# Altium integrated library TI Power Management Step-Up Regulator.IntLib: 226 symbols (part 4 of 11)
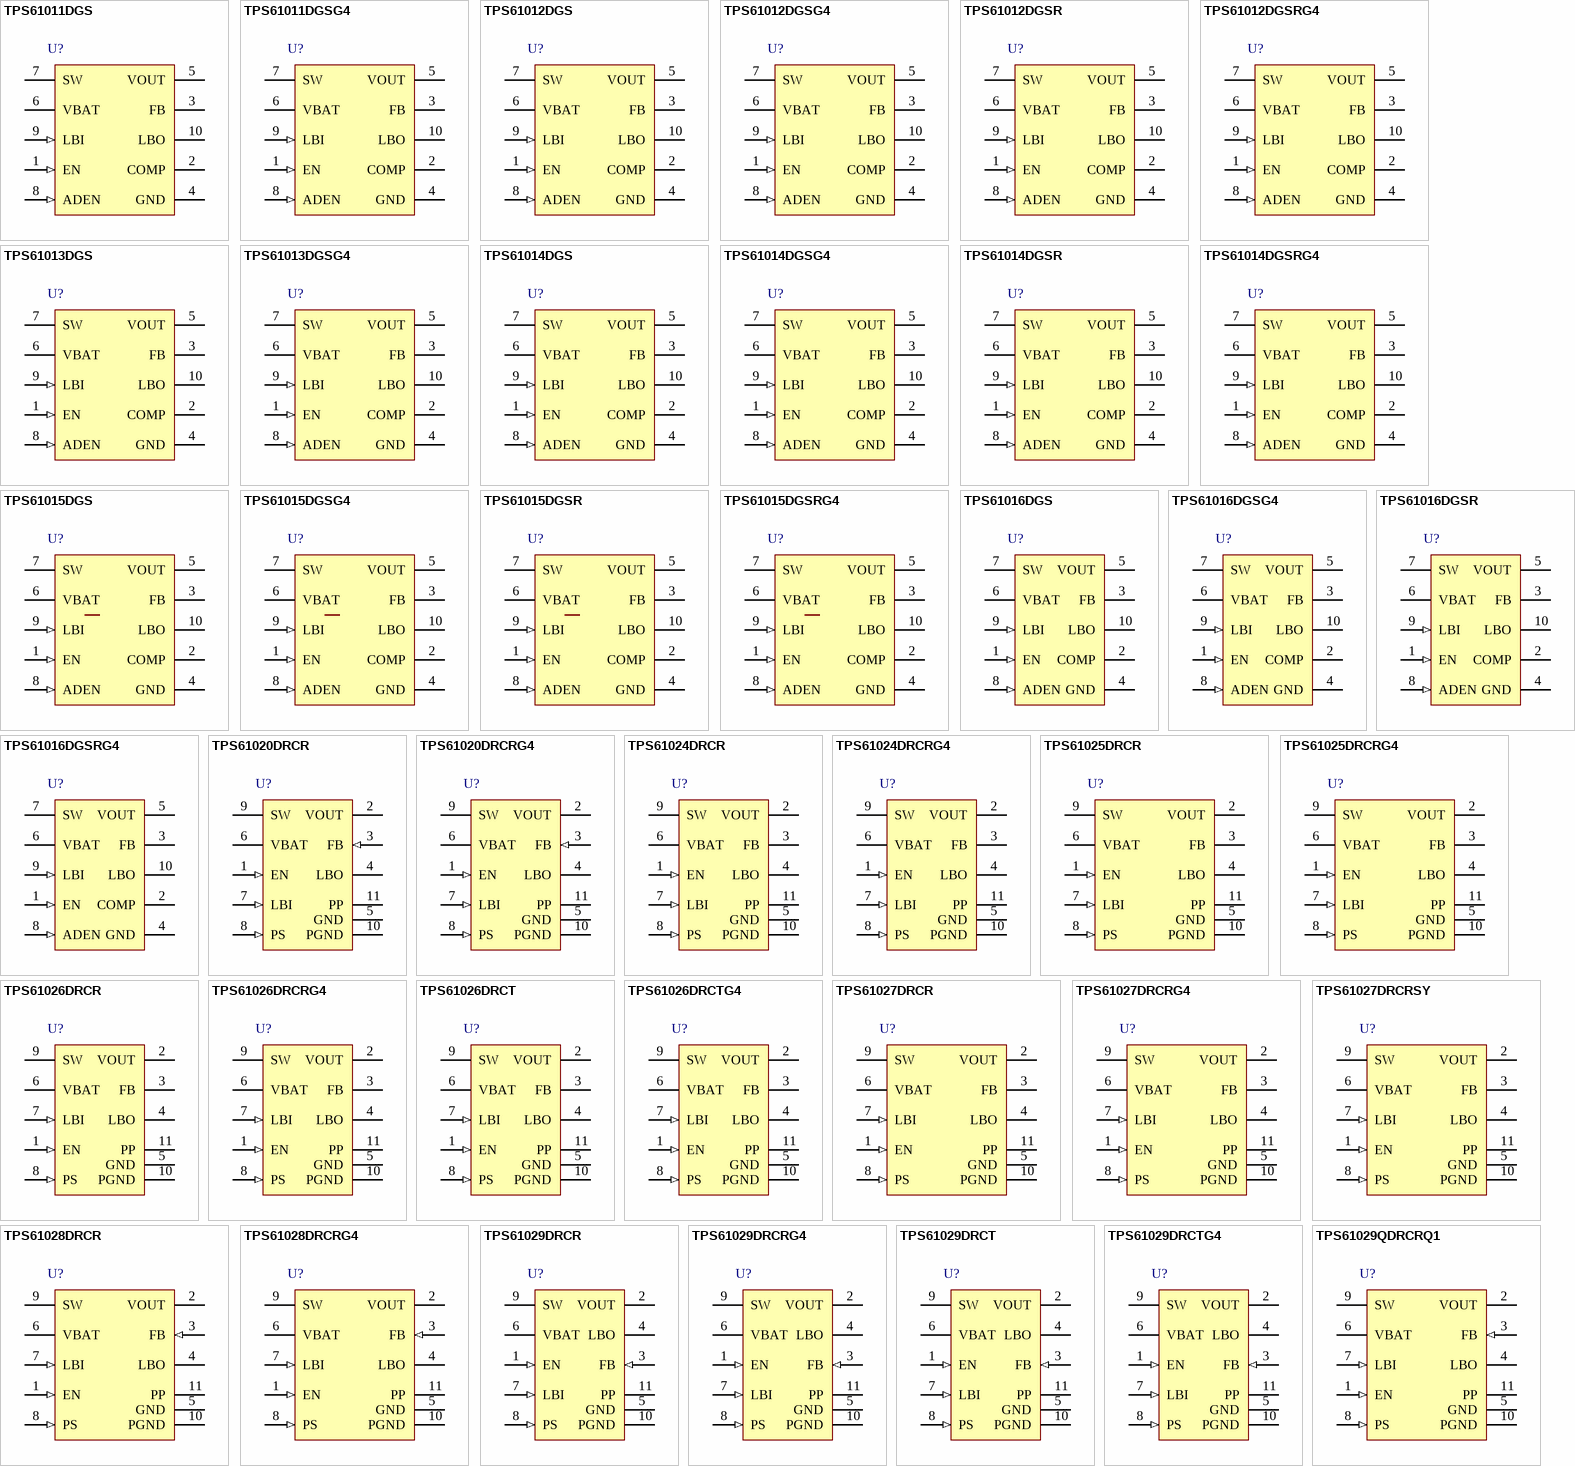
[diagram p9: symbols TPS61011DGS to TPS61029QDRCRQ1]

## TPS61024DRCRG4
designator U?
Boost Voltage Converter with 0.9 to 6.5 V Input, -40 to 85 degC, 10-Pin SON (DRC), Green (RoHS & no Sb/Br); Manufacturer: Texas Instruments; PartNumber: TPS61024DRCRG4; Preset Vout(V): 3; Regulated Outputs(#): 1; SubFamily: Step-Up Regulator; Switching Frequency(Max)(kHz): 720; Synchronous Rectification: TRUE; Vin(Max)(V): 6.5; Vin(Min)(V): 0.9; DatasheetVersion: SLVS451F; PackageVersion: revL, Sep-2011; PackageReference: DRC10-2400X1650TP; PackageDescription: 10-Pin Plastic Small Outline No-Lead, 3 x 3 x 1 mm Body, 0.5 mm Pitch, Exposed Pad; Supplier 1: Digi-Key; Supplier Part Number 1: TPS61024DRCRG4-ND; Supplier 2: Newark; Supplier Part Number 2: 24K6021; Supplier 3: Mouser; Supplier Part Number 3: 595-TPS61024DRCRG4; Eco-Plan: Green (RoHS & no Sb/Br); Topology: Boost; Mounting Technology: Surface Mount; ComponentLink1Description: Datasheet; ComponentLink1URL: http://www.ti.com/general/docs/lit/getliterature.tsp?genericPartNumber=TPS61024&fileType=pdf; ComponentLink2Description: Package Specification; ComponentLink2URL: http://www.ti.com/litv/pdf/mpds117k
footprint DRC10-2400X1650TP (SON, 10-Leads, Body 3x3mm, Pitch 0.5mm, Thermal Pad 2.4x1.65mm, TI Recommended)
pins: 1 EN (in) "Enable input. (1/VBAT enabled, 0/GND disabled)", 2 VOUT (power) "Boost converter output", 3 FB "Voltage feedback of adjustable versions", 4 LBO (hiz) "Low battery comparator output (open drain)", 5 GND (power) "Control / logic ground", 6 VBAT (power) "Supply voltage", 7 LBI (in) "Low battery comparator input (comparator enabled with EN), may not be left floating, should be connected to GND or VBAT if comparator is not used", 8 PS (in) "Enable/disable power save mode (1/VBAT disabled, 0/GND enabled)", 9 SW (power) "Boost and rectifying switch input", 10 PGND (power) "Power ground", 11 PP (power) "Must be soldered to achieve appropriate power dissipation. Should be connected to PGND."

## TPS61025DRCR
designator U?
Boost Voltage Converter with 0.9 to 6.5 V Input, -40 to 85 degC, 10-Pin SON (DRC), Green (RoHS & no Sb/Br); Manufacturer: Texas Instruments; PartNumber: TPS61025DRCR; Preset Vout(V): 3.3; Regulated Outputs(#): 1; SubFamily: Step-Up Regulator; Switching Frequency(Max)(kHz): 720; Synchronous Rectification: TRUE; Vin(Max)(V): 6.5; Vin(Min)(V): 0.9; DatasheetVersion: SLVS451F; PackageVersion: revL, Sep-2011; PackageReference: DRC10-2400X1650TP; PackageDescription: 10-Pin Plastic Small Outline No-Lead, 3 x 3 x 1 mm Body, 0.5 mm Pitch, Exposed Pad; Supplier 1: Digi-Key; Supplier Part Number 1: 296-15844-2-ND; Supplier 2: Digi-Key; Supplier Part Number 2: 296-15844-1-ND; Supplier 3: Digi-Key; Supplier Part Number 3: 296-15844-6-ND; Supplier 4: Farnell; Supplier Part Number 4: 1703402; Supplier 5: Newark; Supplier Part Number 5: 87H2896; Supplier 6: Mouser; Supplier Part Number 6: 595-TPS61025DRCR; Eco-Plan: Green (RoHS & no Sb/Br); Topology: Boost; Mounting Technology: Surface Mount; ComponentLink1Description: Datasheet; ComponentLink1URL: http://www.ti.com/general/docs/lit/getliterature.tsp?genericPartNumber=TPS61025&fileType=pdf; ComponentLink2Description: Package Specification; ComponentLink2URL: http://www.ti.com/litv/pdf/mpds117k
footprint DRC10-2400X1650TP (SON, 10-Leads, Body 3x3mm, Pitch 0.5mm, Thermal Pad 2.4x1.65mm, TI Recommended)
pins: 1 EN (in) "Enable input. (1/VBAT enabled, 0/GND disabled)", 2 VOUT (power) "Boost converter output", 3 FB "Voltage feedback of adjustable versions", 4 LBO (hiz) "Low battery comparator output (open drain)", 5 GND (power) "Control / logic ground", 6 VBAT (power) "Supply voltage", 7 LBI (in) "Low battery comparator input (comparator enabled with EN), may not be left floating, should be connected to GND or VBAT if comparator is not used", 8 PS (in) "Enable/disable power save mode (1/VBAT disabled, 0/GND enabled)", 9 SW (power) "Boost and rectifying switch input", 10 PGND (power) "Power ground", 11 PP (power) "Must be soldered to achieve appropriate power dissipation. Should be connected to PGND."

## TPS61025DRCRG4
designator U?
Boost Voltage Converter with 0.9 to 6.5 V Input, -40 to 85 degC, 10-Pin SON (DRC), Green (RoHS & no Sb/Br); Manufacturer: Texas Instruments; PartNumber: TPS61025DRCRG4; Preset Vout(V): 3.3; Regulated Outputs(#): 1; SubFamily: Step-Up Regulator; Switching Frequency(Max)(kHz): 720; Synchronous Rectification: TRUE; Vin(Max)(V): 6.5; Vin(Min)(V): 0.9; DatasheetVersion: SLVS451F; PackageVersion: revL, Sep-2011; PackageReference: DRC10-2400X1650TP; PackageDescription: 10-Pin Plastic Small Outline No-Lead, 3 x 3 x 1 mm Body, 0.5 mm Pitch, Exposed Pad; Supplier 1: Digi-Key; Supplier Part Number 1: TPS61025DRCRG4-ND; Supplier 2: Newark; Supplier Part Number 2: 54K1714; Supplier 3: Mouser; Supplier Part Number 3: 595-TPS61025DRCRG4; Eco-Plan: Green (RoHS & no Sb/Br); Topology: Boost; Mounting Technology: Surface Mount; ComponentLink1Description: Datasheet; ComponentLink1URL: http://www.ti.com/general/docs/lit/getliterature.tsp?genericPartNumber=TPS61025&fileType=pdf; ComponentLink2Description: Package Specification; ComponentLink2URL: http://www.ti.com/litv/pdf/mpds117k
footprint DRC10-2400X1650TP (SON, 10-Leads, Body 3x3mm, Pitch 0.5mm, Thermal Pad 2.4x1.65mm, TI Recommended)
pins: 1 EN (in) "Enable input. (1/VBAT enabled, 0/GND disabled)", 2 VOUT (power) "Boost converter output", 3 FB "Voltage feedback of adjustable versions", 4 LBO (hiz) "Low battery comparator output (open drain)", 5 GND (power) "Control / logic ground", 6 VBAT (power) "Supply voltage", 7 LBI (in) "Low battery comparator input (comparator enabled with EN), may not be left floating, should be connected to GND or VBAT if comparator is not used", 8 PS (in) "Enable/disable power save mode (1/VBAT disabled, 0/GND enabled)", 9 SW (power) "Boost and rectifying switch input", 10 PGND (power) "Power ground", 11 PP (power) "Must be soldered to achieve appropriate power dissipation. Should be connected to PGND."

## TPS61026DRCR
designator U?
Boost Voltage Converter with 0.9 to 5.5 V Input, -40 to 85 degC, 10-Pin SON (DRC), Green (RoHS & no Sb/Br); Manufacturer: Texas Instruments; PartNumber: TPS61026DRCR; Preset Vout(V): 5; Regulated Outputs(#): 1; SubFamily: Step-Up Regulator; Switching Frequency(Max)(kHz): 720; Synchronous Rectification: TRUE; Vin(Max)(V): 5.5; Vin(Min)(V): 0.9; DatasheetVersion: SLVS451F; PackageVersion: revL, Sep-2011; PackageReference: DRC10-2400X1650TP; PackageDescription: 10-Pin Plastic Small Outline No-Lead, 3 x 3 x 1 mm Body, 0.5 mm Pitch, Exposed Pad; Supplier 1: Digi-Key; Supplier Part Number 1: TPS61026DRCR-ND; Supplier 2: Newark; Supplier Part Number 2: 80K3407; Supplier 3: Mouser; Supplier Part Number 3: 595-TPS61026DRCR; Eco-Plan: Green (RoHS & no Sb/Br); Topology: Boost; Mounting Technology: Surface Mount; ComponentLink1Description: Datasheet; ComponentLink1URL: http://www.ti.com/general/docs/lit/getliterature.tsp?genericPartNumber=TPS61026&fileType=pdf; ComponentLink2Description: Package Specification; ComponentLink2URL: http://www.ti.com/litv/pdf/mpds117k
footprint DRC10-2400X1650TP (SON, 10-Leads, Body 3x3mm, Pitch 0.5mm, Thermal Pad 2.4x1.65mm, TI Recommended)
pins: 1 EN (in) "Enable input. (1/VBAT enabled, 0/GND disabled)", 2 VOUT (power) "Boost converter output", 3 FB "Voltage feedback of adjustable versions", 4 LBO (hiz) "Low battery comparator output (open drain)", 5 GND (power) "Control / logic ground", 6 VBAT (power) "Supply voltage", 7 LBI (in) "Low battery comparator input (comparator enabled with EN), may not be left floating, should be connected to GND or VBAT if comparator is not used", 8 PS (in) "Enable/disable power save mode (1/VBAT disabled, 0/GND enabled)", 9 SW (power) "Boost and rectifying switch input", 10 PGND (power) "Power ground", 11 PP (power) "Must be soldered to achieve appropriate power dissipation. Should be connected to PGND."

## TPS61026DRCRG4
designator U?
Boost Voltage Converter with 0.9 to 5.5 V Input, -40 to 85 degC, 10-Pin SON (DRC), Green (RoHS & no Sb/Br); Manufacturer: Texas Instruments; PartNumber: TPS61026DRCRG4; Preset Vout(V): 5; Regulated Outputs(#): 1; SubFamily: Step-Up Regulator; Switching Frequency(Max)(kHz): 720; Synchronous Rectification: TRUE; Vin(Max)(V): 5.5; Vin(Min)(V): 0.9; DatasheetVersion: SLVS451F; PackageVersion: revL, Sep-2011; PackageReference: DRC10-2400X1650TP; PackageDescription: 10-Pin Plastic Small Outline No-Lead, 3 x 3 x 1 mm Body, 0.5 mm Pitch, Exposed Pad; Supplier 1: Digi-Key; Supplier Part Number 1: TPS61026DRCRG4-ND; Supplier 2: Newark; Supplier Part Number 2: 81K4151; Supplier 3: Mouser; Supplier Part Number 3: 595-TPS61026DRCRG4; Eco-Plan: Green (RoHS & no Sb/Br); Topology: Boost; Mounting Technology: Surface Mount; ComponentLink1Description: Datasheet; ComponentLink1URL: http://www.ti.com/general/docs/lit/getliterature.tsp?genericPartNumber=TPS61026&fileType=pdf; ComponentLink2Description: Package Specification; ComponentLink2URL: http://www.ti.com/litv/pdf/mpds117k
footprint DRC10-2400X1650TP (SON, 10-Leads, Body 3x3mm, Pitch 0.5mm, Thermal Pad 2.4x1.65mm, TI Recommended)
pins: 1 EN (in) "Enable input. (1/VBAT enabled, 0/GND disabled)", 2 VOUT (power) "Boost converter output", 3 FB "Voltage feedback of adjustable versions", 4 LBO (hiz) "Low battery comparator output (open drain)", 5 GND (power) "Control / logic ground", 6 VBAT (power) "Supply voltage", 7 LBI (in) "Low battery comparator input (comparator enabled with EN), may not be left floating, should be connected to GND or VBAT if comparator is not used", 8 PS (in) "Enable/disable power save mode (1/VBAT disabled, 0/GND enabled)", 9 SW (power) "Boost and rectifying switch input", 10 PGND (power) "Power ground", 11 PP (power) "Must be soldered to achieve appropriate power dissipation. Should be connected to PGND."

## TPS61026DRCT
designator U?
Boost Voltage Converter with 0.9 to 5.5 V Input, -40 to 85 degC, 10-Pin SON (DRC), Green (RoHS & no Sb/Br); Manufacturer: Texas Instruments; PartNumber: TPS61026DRCT; Preset Vout(V): 5; Regulated Outputs(#): 1; SubFamily: Step-Up Regulator; Switching Frequency(Max)(kHz): 720; Synchronous Rectification: TRUE; Vin(Max)(V): 5.5; Vin(Min)(V): 0.9; DatasheetVersion: SLVS451F; PackageVersion: revL, Sep-2011; PackageReference: DRC10-2400X1650TP; PackageDescription: 10-Pin Plastic Small Outline No-Lead, 3 x 3 x 1 mm Body, 0.5 mm Pitch, Exposed Pad; Supplier 1: Digi-Key; Supplier Part Number 1: 296-19558-2-ND; Supplier 2: Digi-Key; Supplier Part Number 2: 296-19558-1-ND; Supplier 3: Digi-Key; Supplier Part Number 3: 296-19558-6-ND; Supplier 4: Newark; Supplier Part Number 4: 80K3408; Supplier 5: Mouser; Supplier Part Number 5: 595-TPS61026DRCT; Eco-Plan: Green (RoHS & no Sb/Br); Topology: Boost; Mounting Technology: Surface Mount; ComponentLink1Description: Datasheet; ComponentLink1URL: http://www.ti.com/general/docs/lit/getliterature.tsp?genericPartNumber=TPS61026&fileType=pdf; ComponentLink2Description: Package Specification; ComponentLink2URL: http://www.ti.com/litv/pdf/mpds117k
footprint DRC10-2400X1650TP (SON, 10-Leads, Body 3x3mm, Pitch 0.5mm, Thermal Pad 2.4x1.65mm, TI Recommended)
pins: 1 EN (in) "Enable input. (1/VBAT enabled, 0/GND disabled)", 2 VOUT (power) "Boost converter output", 3 FB "Voltage feedback of adjustable versions", 4 LBO (hiz) "Low battery comparator output (open drain)", 5 GND (power) "Control / logic ground", 6 VBAT (power) "Supply voltage", 7 LBI (in) "Low battery comparator input (comparator enabled with EN), may not be left floating, should be connected to GND or VBAT if comparator is not used", 8 PS (in) "Enable/disable power save mode (1/VBAT disabled, 0/GND enabled)", 9 SW (power) "Boost and rectifying switch input", 10 PGND (power) "Power ground", 11 PP (power) "Must be soldered to achieve appropriate power dissipation. Should be connected to PGND."

## TPS61026DRCTG4
designator U?
Boost Voltage Converter with 0.9 to 5.5 V Input, -40 to 85 degC, 10-Pin SON (DRC), Green (RoHS & no Sb/Br); Manufacturer: Texas Instruments; PartNumber: TPS61026DRCTG4; Preset Vout(V): 5; Regulated Outputs(#): 1; SubFamily: Step-Up Regulator; Switching Frequency(Max)(kHz): 720; Synchronous Rectification: TRUE; Vin(Max)(V): 5.5; Vin(Min)(V): 0.9; DatasheetVersion: SLVS451F; PackageVersion: revL, Sep-2011; PackageReference: DRC10-2400X1650TP; PackageDescription: 10-Pin Plastic Small Outline No-Lead, 3 x 3 x 1 mm Body, 0.5 mm Pitch, Exposed Pad; Supplier 1: Digi-Key; Supplier Part Number 1: TPS61026DRCTG4-ND; Supplier 2: Farnell; Supplier Part Number 2: 1276094; Supplier 3: Newark; Supplier Part Number 3: 24M8538; Supplier 4: Newark; Supplier Part Number 4: 81K4152; Supplier 5: Mouser; Supplier Part Number 5: 595-TPS61026DRCTG4; Eco-Plan: Green (RoHS & no Sb/Br); Topology: Boost; Mounting Technology: Surface Mount; ComponentLink1Description: Datasheet; ComponentLink1URL: http://www.ti.com/general/docs/lit/getliterature.tsp?genericPartNumber=TPS61026&fileType=pdf; ComponentLink2Description: Package Specification; ComponentLink2URL: http://www.ti.com/litv/pdf/mpds117k
footprint DRC10-2400X1650TP (SON, 10-Leads, Body 3x3mm, Pitch 0.5mm, Thermal Pad 2.4x1.65mm, TI Recommended)
pins: 1 EN (in) "Enable input. (1/VBAT enabled, 0/GND disabled)", 2 VOUT (power) "Boost converter output", 3 FB "Voltage feedback of adjustable versions", 4 LBO (hiz) "Low battery comparator output (open drain)", 5 GND (power) "Control / logic ground", 6 VBAT (power) "Supply voltage", 7 LBI (in) "Low battery comparator input (comparator enabled with EN), may not be left floating, should be connected to GND or VBAT if comparator is not used", 8 PS (in) "Enable/disable power save mode (1/VBAT disabled, 0/GND enabled)", 9 SW (power) "Boost and rectifying switch input", 10 PGND (power) "Power ground", 11 PP (power) "Must be soldered to achieve appropriate power dissipation. Should be connected to PGND."

## TPS61027DRCR
designator U?
Boost Voltage Converter with 0.9 to 6.5 V Input, -40 to 85 degC, 10-Pin SON (DRC), Green (RoHS & no Sb/Br); Manufacturer: Texas Instruments; PartNumber: TPS61027DRCR; Preset Vout(V): 5; Regulated Outputs(#): 1; SubFamily: Step-Up Regulator; Switching Frequency(Max)(kHz): 720; Synchronous Rectification: TRUE; Vin(Max)(V): 6.5; Vin(Min)(V): 0.9; DatasheetVersion: SLVS451F; PackageVersion: revL, Sep-2011; PackageReference: DRC10-2400X1650TP; PackageDescription: 10-Pin Plastic Small Outline No-Lead, 3 x 3 x 1 mm Body, 0.5 mm Pitch, Exposed Pad; Supplier 1: Digi-Key; Supplier Part Number 1: 296-15754-2-ND; Supplier 2: Digi-Key; Supplier Part Number 2: 296-15754-1-ND; Supplier 3: Digi-Key; Supplier Part Number 3: 296-15754-6-ND; Supplier 4: Newark; Supplier Part Number 4: 87H2897; Supplier 5: Mouser; Supplier Part Number 5: 595-TPS61027DRCR; Eco-Plan: Green (RoHS & no Sb/Br); Topology: Boost; Mounting Technology: Surface Mount; ComponentLink1Description: Datasheet; ComponentLink1URL: http://www.ti.com/general/docs/lit/getliterature.tsp?genericPartNumber=TPS61027&fileType=pdf; ComponentLink2Description: Package Specification; ComponentLink2URL: http://www.ti.com/litv/pdf/mpds117k
footprint DRC10-2400X1650TP (SON, 10-Leads, Body 3x3mm, Pitch 0.5mm, Thermal Pad 2.4x1.65mm, TI Recommended)
pins: 1 EN (in) "Enable input. (1/VBAT enabled, 0/GND disabled)", 2 VOUT (power) "Boost converter output", 3 FB "Voltage feedback of adjustable versions", 4 LBO (hiz) "Low battery comparator output (open drain)", 5 GND (power) "Control / logic ground", 6 VBAT (power) "Supply voltage", 7 LBI (in) "Low battery comparator input (comparator enabled with EN), may not be left floating, should be connected to GND or VBAT if comparator is not used", 8 PS (in) "Enable/disable power save mode (1/VBAT disabled, 0/GND enabled)", 9 SW (power) "Boost and rectifying switch input", 10 PGND (power) "Power ground", 11 PP (power) "Must be soldered to achieve appropriate power dissipation. Should be connected to PGND."

## TPS61027DRCRG4
designator U?
Boost Voltage Converter with 0.9 to 6.5 V Input, -40 to 85 degC, 10-Pin SON (DRC), Green (RoHS & no Sb/Br); Manufacturer: Texas Instruments; PartNumber: TPS61027DRCRG4; Preset Vout(V): 5; Regulated Outputs(#): 1; SubFamily: Step-Up Regulator; Switching Frequency(Max)(kHz): 720; Synchronous Rectification: TRUE; Vin(Max)(V): 6.5; Vin(Min)(V): 0.9; DatasheetVersion: SLVS451F; PackageVersion: revL, Sep-2011; PackageReference: DRC10-2400X1650TP; PackageDescription: 10-Pin Plastic Small Outline No-Lead, 3 x 3 x 1 mm Body, 0.5 mm Pitch, Exposed Pad; Supplier 1: Digi-Key; Supplier Part Number 1: TPS61027DRCRG4-ND; Supplier 2: Newark; Supplier Part Number 2: 08K4962; Supplier 3: Mouser; Supplier Part Number 3: 595-TPS61027DRCRG4; Eco-Plan: Green (RoHS & no Sb/Br); Topology: Boost; Mounting Technology: Surface Mount; ComponentLink1Description: Datasheet; ComponentLink1URL: http://www.ti.com/general/docs/lit/getliterature.tsp?genericPartNumber=TPS61027&fileType=pdf; ComponentLink2Description: Package Specification; ComponentLink2URL: http://www.ti.com/litv/pdf/mpds117k
footprint DRC10-2400X1650TP (SON, 10-Leads, Body 3x3mm, Pitch 0.5mm, Thermal Pad 2.4x1.65mm, TI Recommended)
pins: 1 EN (in) "Enable input. (1/VBAT enabled, 0/GND disabled)", 2 VOUT (power) "Boost converter output", 3 FB "Voltage feedback of adjustable versions", 4 LBO (hiz) "Low battery comparator output (open drain)", 5 GND (power) "Control / logic ground", 6 VBAT (power) "Supply voltage", 7 LBI (in) "Low battery comparator input (comparator enabled with EN), may not be left floating, should be connected to GND or VBAT if comparator is not used", 8 PS (in) "Enable/disable power save mode (1/VBAT disabled, 0/GND enabled)", 9 SW (power) "Boost and rectifying switch input", 10 PGND (power) "Power ground", 11 PP (power) "Must be soldered to achieve appropriate power dissipation. Should be connected to PGND."

## TPS61027DRCRSY
designator U?
Boost Voltage Converter with 0.9 to 6.5 V Input, -40 to 85 degC, 10-Pin SON (DRC), Green (RoHS & no Sb/Br); Manufacturer: Texas Instruments; PartNumber: TPS61027DRCRSY; Preset Vout(V): 5; Regulated Outputs(#): 1; SubFamily: Step-Up Regulator; Switching Frequency(Max)(kHz): 720; Synchronous Rectification: TRUE; Vin(Max)(V): 6.5; Vin(Min)(V): 0.9; DatasheetVersion: SLVS451F; PackageVersion: revL, Sep-2011; PackageReference: DRC10-2400X1650TP; PackageDescription: 10-Pin Plastic Small Outline No-Lead, 3 x 3 x 1 mm Body, 0.5 mm Pitch, Exposed Pad; Supplier 1: Digi-Key; Supplier Part Number 1: TPS61027DRCRSY-ND; Supplier 2: Newark; Supplier Part Number 2: 31M0456; Supplier 3: Mouser; Supplier Part Number 3: 595-TPS61027DRCRSY; Eco-Plan: Green (RoHS & no Sb/Br); Topology: Boost; Mounting Technology: Surface Mount; ComponentLink1Description: Datasheet; ComponentLink1URL: http://www.ti.com/general/docs/lit/getliterature.tsp?genericPartNumber=TPS61027&fileType=pdf; ComponentLink2Description: Package Specification; ComponentLink2URL: http://www.ti.com/litv/pdf/mpds117k
footprint DRC10-2400X1650TP (SON, 10-Leads, Body 3x3mm, Pitch 0.5mm, Thermal Pad 2.4x1.65mm, TI Recommended)
pins: 1 EN (in) "Enable input. (1/VBAT enabled, 0/GND disabled)", 2 VOUT (power) "Boost converter output", 3 FB "Voltage feedback of adjustable versions", 4 LBO (hiz) "Low battery comparator output (open drain)", 5 GND (power) "Control / logic ground", 6 VBAT (power) "Supply voltage", 7 LBI (in) "Low battery comparator input (comparator enabled with EN), may not be left floating, should be connected to GND or VBAT if comparator is not used", 8 PS (in) "Enable/disable power save mode (1/VBAT disabled, 0/GND enabled)", 9 SW (power) "Boost and rectifying switch input", 10 PGND (power) "Power ground", 11 PP (power) "Must be soldered to achieve appropriate power dissipation. Should be connected to PGND."

## TPS61028DRCR
designator U?
Boost Adjustable Converter with 0.9 to 6.5 V Input and 1.8 to 5.5 V Output, -40 to 85 degC, 10-Pin SON (DRC), Green (RoHS & no Sb/Br); Manufacturer: Texas Instruments; PartNumber: TPS61028DRCR; Regulated Outputs(#): 1; SubFamily: Step-Up Regulator; Switching Frequency(Max)(kHz): 720; Synchronous Rectification: TRUE; Vin(Max)(V): 6.5; Vin(Min)(V): 0.9; Vout(Max)(V): 5.5; Vout(Min)(V): 1.8; DatasheetVersion: SLVS451E; PackageVersion: revL, Sep-2011; PackageReference: DRC10-2400X1650TP; PackageDescription: 10-Pin Plastic Small Outline No-Lead, 3 x 3 x 1 mm Body, 0.5 mm Pitch, Exposed Pad; Supplier 1: Digi-Key; Supplier Part Number 1: 296-18078-2-ND; Supplier 2: Digi-Key; Supplier Part Number 2: 296-18078-1-ND; Supplier 3: Digi-Key; Supplier Part Number 3: 296-18078-6-ND; Supplier 4: Newark; Supplier Part Number 4: 40K9771; Supplier 5: Mouser; Supplier Part Number 5: 595-TPS61028DRCR; Eco-Plan: Green (RoHS & no Sb/Br); Topology: Boost; Mounting Technology: Surface Mount; ComponentLink1Description: Datasheet; ComponentLink1URL: http://www.ti.com/general/docs/lit/getliterature.tsp?genericPartNumber=TPS61028&fileType=pdf; ComponentLink2Description: Package Specification; ComponentLink2URL: http://www.ti.com/litv/pdf/mpds117k
footprint DRC10-2400X1650TP (SON, 10-Leads, Body 3x3mm, Pitch 0.5mm, Thermal Pad 2.4x1.65mm, TI Recommended)
pins: 1 EN (in) "Enable input. (1/VBAT enabled, 0/GND disabled)", 2 VOUT (power) "Boost converter output", 3 FB (in) "Voltage feedback of adjustable versions", 4 LBO (hiz) "Low battery comparator output (open drain)", 5 GND (power) "Control / logic ground", 6 VBAT (power) "Supply voltage", 7 LBI (in) "Low battery comparator input (comparator enabled with EN), may not be left floating, should be connected to GND or VBAT if comparator is not used", 8 PS (in) "Enable/disable power save mode (1/VBAT disabled, 0/GND enabled)", 9 SW (power) "Boost and rectifying switch input", 10 PGND (power) "Power ground", 11 PP (power) "Must be soldered to achieve appropriate power dissipation. Should be connected to PGND."

## TPS61028DRCRG4
designator U?
Boost Adjustable Converter with 0.9 to 6.5 V Input and 1.8 to 5.5 V Output, -40 to 85 degC, 10-Pin SON (DRC), Green (RoHS & no Sb/Br); Manufacturer: Texas Instruments; PartNumber: TPS61028DRCRG4; Regulated Outputs(#): 1; SubFamily: Step-Up Regulator; Switching Frequency(Max)(kHz): 720; Synchronous Rectification: TRUE; Vin(Max)(V): 6.5; Vin(Min)(V): 0.9; Vout(Max)(V): 5.5; Vout(Min)(V): 1.8; DatasheetVersion: SLVS451E; PackageVersion: revL, Sep-2011; PackageReference: DRC10-2400X1650TP; PackageDescription: 10-Pin Plastic Small Outline No-Lead, 3 x 3 x 1 mm Body, 0.5 mm Pitch, Exposed Pad; Supplier 1: Digi-Key; Supplier Part Number 1: TPS61028DRCRG4-ND; Supplier 2: Farnell; Supplier Part Number 2: 1276096; Supplier 3: Newark; Supplier Part Number 3: 73K9603; Supplier 4: Mouser; Supplier Part Number 4: 595-TPS61028DRCRG4; Eco-Plan: Green (RoHS & no Sb/Br); Topology: Boost; Mounting Technology: Surface Mount; ComponentLink1Description: Datasheet; ComponentLink1URL: http://www.ti.com/general/docs/lit/getliterature.tsp?genericPartNumber=TPS61028&fileType=pdf; ComponentLink2Description: Package Specification; ComponentLink2URL: http://www.ti.com/litv/pdf/mpds117k
footprint DRC10-2400X1650TP (SON, 10-Leads, Body 3x3mm, Pitch 0.5mm, Thermal Pad 2.4x1.65mm, TI Recommended)
pins: 1 EN (in) "Enable input. (1/VBAT enabled, 0/GND disabled)", 2 VOUT (power) "Boost converter output", 3 FB (in) "Voltage feedback of adjustable versions", 4 LBO (hiz) "Low battery comparator output (open drain)", 5 GND (power) "Control / logic ground", 6 VBAT (power) "Supply voltage", 7 LBI (in) "Low battery comparator input (comparator enabled with EN), may not be left floating, should be connected to GND or VBAT if comparator is not used", 8 PS (in) "Enable/disable power save mode (1/VBAT disabled, 0/GND enabled)", 9 SW (power) "Boost and rectifying switch input", 10 PGND (power) "Power ground", 11 PP (power) "Must be soldered to achieve appropriate power dissipation. Should be connected to PGND."

## TPS61029DRCR
designator U?
Boost Adjustable Converter with 0.9 to 5.5 V Input and 1.8 to 5.5 V Output, -40 to 85 degC, 10-Pin SON (DRC), Green (RoHS & no Sb/Br); Manufacturer: Texas Instruments; PartNumber: TPS61029DRCR; Regulated Outputs(#): 1; SubFamily: Step-Up Regulator; Switching Frequency(Max)(kHz): 720; Synchronous Rectification: TRUE; Vin(Max)(V): 5.5; Vin(Min)(V): 0.9; Vout(Min)(V): 1.8; DatasheetVersion: SLVS451F; PackageVersion: revL, Sep-2011; PackageReference: DRC10-2400X1650TP; PackageDescription: 10-Pin Plastic Small Outline No-Lead, 3 x 3 x 1 mm Body, 0.5 mm Pitch, Exposed Pad; Supplier 1: Digi-Key; Supplier Part Number 1: 296-25760-2-ND; Supplier 2: Digi-Key; Supplier Part Number 2: 296-25760-1-ND; Supplier 3: Digi-Key; Supplier Part Number 3: 296-25760-6-ND; Supplier 4: Newark; Supplier Part Number 4: 80K3409; Supplier 5: Mouser; Supplier Part Number 5: 595-TPS61029DRCR; Eco-Plan: Green (RoHS & no Sb/Br); Topology: Boost; Vout(Max)(V): 5.5; Mounting Technology: Surface Mount; ComponentLink1Description: Datasheet; ComponentLink1URL: http://www.ti.com/general/docs/lit/getliterature.tsp?genericPartNumber=TPS61029&fileType=pdf; ComponentLink2Description: Package Specification; ComponentLink2URL: http://www.ti.com/litv/pdf/mpds117k
footprint DRC10-2400X1650TP (SON, 10-Leads, Body 3x3mm, Pitch 0.5mm, Thermal Pad 2.4x1.65mm, TI Recommended)
pins: 1 EN (in) "Enable input. (1/VBAT enabled, 0/GND disabled)", 2 VOUT (power) "Boost converter output", 3 FB (in) "Voltage feedback of adjustable versions", 4 LBO (hiz) "Low battery comparator output (open drain)", 5 GND (power) "Control / logic ground", 6 VBAT (power) "Supply voltage", 7 LBI (in) "Low battery comparator input (comparator enabled with EN), may not be left floating, should be connected to GND or VBAT if comparator is not used", 8 PS (in) "Enable/disable power save mode (1/VBAT disabled, 0/GND enabled)", 9 SW (power) "Boost and rectifying switch input", 10 PGND (power) "Power ground", 11 PP (power) "Must be soldered to achieve appropriate power dissipation. Should be connected to PGND."

## TPS61029DRCRG4
designator U?
Boost Adjustable Converter with 0.9 to 5.5 V Input and 1.8 to 5.5 V Output, -40 to 85 degC, 10-Pin SON (DRC), Green (RoHS & no Sb/Br); Manufacturer: Texas Instruments; PartNumber: TPS61029DRCRG4; Regulated Outputs(#): 1; SubFamily: Step-Up Regulator; Switching Frequency(Max)(kHz): 720; Synchronous Rectification: TRUE; Vin(Max)(V): 5.5; Vin(Min)(V): 0.9; Vout(Min)(V): 1.8; DatasheetVersion: SLVS451F; PackageVersion: revL, Sep-2011; PackageReference: DRC10-2400X1650TP; PackageDescription: 10-Pin Plastic Small Outline No-Lead, 3 x 3 x 1 mm Body, 0.5 mm Pitch, Exposed Pad; Supplier 1: Digi-Key; Supplier Part Number 1: TPS61029DRCRG4-ND; Supplier 2: Newark; Supplier Part Number 2: 81K4153; Supplier 3: Mouser; Supplier Part Number 3: 595-TPS61029DRCRG4; Eco-Plan: Green (RoHS & no Sb/Br); Topology: Boost; Vout(Max)(V): 5.5; Mounting Technology: Surface Mount; ComponentLink1Description: Datasheet; ComponentLink1URL: http://www.ti.com/general/docs/lit/getliterature.tsp?genericPartNumber=TPS61029&fileType=pdf; ComponentLink2Description: Package Specification; ComponentLink2URL: http://www.ti.com/litv/pdf/mpds117k
footprint DRC10-2400X1650TP (SON, 10-Leads, Body 3x3mm, Pitch 0.5mm, Thermal Pad 2.4x1.65mm, TI Recommended)
pins: 1 EN (in) "Enable input. (1/VBAT enabled, 0/GND disabled)", 2 VOUT (power) "Boost converter output", 3 FB (in) "Voltage feedback of adjustable versions", 4 LBO (hiz) "Low battery comparator output (open drain)", 5 GND (power) "Control / logic ground", 6 VBAT (power) "Supply voltage", 7 LBI (in) "Low battery comparator input (comparator enabled with EN), may not be left floating, should be connected to GND or VBAT if comparator is not used", 8 PS (in) "Enable/disable power save mode (1/VBAT disabled, 0/GND enabled)", 9 SW (power) "Boost and rectifying switch input", 10 PGND (power) "Power ground", 11 PP (power) "Must be soldered to achieve appropriate power dissipation. Should be connected to PGND."

## TPS61029DRCT
designator U?
Boost Adjustable Converter with 0.9 to 5.5 V Input and 1.8 to 5.5 V Output, -40 to 85 degC, 10-Pin SON (DRC), Green (RoHS & no Sb/Br); Manufacturer: Texas Instruments; PartNumber: TPS61029DRCT; Regulated Outputs(#): 1; SubFamily: Step-Up Regulator; Switching Frequency(Max)(kHz): 720; Synchronous Rectification: TRUE; Vin(Max)(V): 5.5; Vin(Min)(V): 0.9; Vout(Min)(V): 1.8; DatasheetVersion: SLVS451F; PackageVersion: revL, Sep-2011; PackageReference: DRC10-2400X1650TP; PackageDescription: 10-Pin Plastic Small Outline No-Lead, 3 x 3 x 1 mm Body, 0.5 mm Pitch, Exposed Pad; Supplier 1: Digi-Key; Supplier Part Number 1: 296-19559-2-ND; Supplier 2: Digi-Key; Supplier Part Number 2: 296-19559-1-ND; Supplier 3: Digi-Key; Supplier Part Number 3: 296-19559-6-ND; Supplier 4: Farnell; Supplier Part Number 4: 1471237; Supplier 5: Newark; Supplier Part Number 5: 80K3410; Supplier 6: Mouser; Supplier Part Number 6: 595-TPS61029DRCT; Eco-Plan: Green (RoHS & no Sb/Br); Topology: Boost; Vout(Max)(V): 5.5; Mounting Technology: Surface Mount; ComponentLink1Description: Datasheet; ComponentLink1URL: http://www.ti.com/general/docs/lit/getliterature.tsp?genericPartNumber=TPS61029&fileType=pdf; ComponentLink2Description: Package Specification; ComponentLink2URL: http://www.ti.com/litv/pdf/mpds117k
footprint DRC10-2400X1650TP (SON, 10-Leads, Body 3x3mm, Pitch 0.5mm, Thermal Pad 2.4x1.65mm, TI Recommended)
pins: 1 EN (in) "Enable input. (1/VBAT enabled, 0/GND disabled)", 2 VOUT (power) "Boost converter output", 3 FB (in) "Voltage feedback of adjustable versions", 4 LBO (hiz) "Low battery comparator output (open drain)", 5 GND (power) "Control / logic ground", 6 VBAT (power) "Supply voltage", 7 LBI (in) "Low battery comparator input (comparator enabled with EN), may not be left floating, should be connected to GND or VBAT if comparator is not used", 8 PS (in) "Enable/disable power save mode (1/VBAT disabled, 0/GND enabled)", 9 SW (power) "Boost and rectifying switch input", 10 PGND (power) "Power ground", 11 PP (power) "Must be soldered to achieve appropriate power dissipation. Should be connected to PGND."

## TPS61029DRCTG4
designator U?
Boost Adjustable Converter with 0.9 to 5.5 V Input and 1.8 to 5.5 V Output, -40 to 85 degC, 10-Pin SON (DRC), Green (RoHS & no Sb/Br); Manufacturer: Texas Instruments; PartNumber: TPS61029DRCTG4; Regulated Outputs(#): 1; SubFamily: Step-Up Regulator; Switching Frequency(Max)(kHz): 720; Synchronous Rectification: TRUE; Vin(Max)(V): 5.5; Vin(Min)(V): 0.9; Vout(Min)(V): 1.8; DatasheetVersion: SLVS451F; PackageVersion: revL, Sep-2011; PackageReference: DRC10-2400X1650TP; PackageDescription: 10-Pin Plastic Small Outline No-Lead, 3 x 3 x 1 mm Body, 0.5 mm Pitch, Exposed Pad; Supplier 1: Digi-Key; Supplier Part Number 1: TPS61029DRCTG4-ND; Supplier 2: Newark; Supplier Part Number 2: 81K4154; Supplier 3: Mouser; Supplier Part Number 3: 595-TPS61029DRCTG4; Eco-Plan: Green (RoHS & no Sb/Br); Topology: Boost; Vout(Max)(V): 5.5; Mounting Technology: Surface Mount; ComponentLink1Description: Datasheet; ComponentLink1URL: http://www.ti.com/general/docs/lit/getliterature.tsp?genericPartNumber=TPS61029&fileType=pdf; ComponentLink2Description: Package Specification; ComponentLink2URL: http://www.ti.com/litv/pdf/mpds117k
footprint DRC10-2400X1650TP (SON, 10-Leads, Body 3x3mm, Pitch 0.5mm, Thermal Pad 2.4x1.65mm, TI Recommended)
pins: 1 EN (in) "Enable input. (1/VBAT enabled, 0/GND disabled)", 2 VOUT (power) "Boost converter output", 3 FB (in) "Voltage feedback of adjustable versions", 4 LBO (hiz) "Low battery comparator output (open drain)", 5 GND (power) "Control / logic ground", 6 VBAT (power) "Supply voltage", 7 LBI (in) "Low battery comparator input (comparator enabled with EN), may not be left floating, should be connected to GND or VBAT if comparator is not used", 8 PS (in) "Enable/disable power save mode (1/VBAT disabled, 0/GND enabled)", 9 SW (power) "Boost and rectifying switch input", 10 PGND (power) "Power ground", 11 PP (power) "Must be soldered to achieve appropriate power dissipation. Should be connected to PGND."

## TPS61029QDRCRQ1
designator U?
Boost Adjustable Converter with 0.9 to 5.5 V Input and 1.8 to 5.5 V Output, -40 to 125 degC, 10-Pin SON (DRC), Green (RoHS & no Sb/Br); Manufacturer: Texas Instruments; PartNumber: TPS61029QDRCRQ1; Regulated Outputs(#): 1; SubFamily: Step-Up Regulator; Switching Frequency(Max)(kHz): 720; Synchronous Rectification: TRUE; Vin(Max)(V): 5.5; Vin(Min)(V): 0.9; Vout(Min)(V): 1.8; DatasheetVersion: SLVSA31; PackageVersion: revL, Sep-2011; PackageReference: DRC10-2400X1650TP; PackageDescription: 10-Pin Plastic Small Outline No-Lead, 3 x 3 x 1 mm Body, 0.5 mm Pitch, Exposed Pad; Supplier 1: Digi-Key; Supplier Part Number 1: 296-27295-2-ND; Supplier 2: Digi-Key; Supplier Part Number 2: 296-27295-1-ND; Supplier 3: Digi-Key; Supplier Part Number 3: 296-27295-6-ND; Supplier 4: Newark; Supplier Part Number 4: 55R7605; Supplier 5: Mouser; Supplier Part Number 5: 595-TPS61029QDRCRQ1; Eco-Plan: Green (RoHS & no Sb/Br); Topology: Boost; Vout(Max)(V): 5.5; Mounting Technology: Surface Mount; ComponentLink1Description: Datasheet; ComponentLink1URL: http://www.ti.com/general/docs/lit/getliterature.tsp?genericPartNumber=TPS61029-Q1&fileType=pdf; ComponentLink2Description: Package Specification; ComponentLink2URL: http://www.ti.com/litv/pdf/mpds117k
footprint DRC10-2400X1650TP (SON, 10-Leads, Body 3x3mm, Pitch 0.5mm, Thermal Pad 2.4x1.65mm, TI Recommended)
pins: 1 EN (in) "Enable input (1/VBAT enabled, 0/GND disabled)", 2 VOUT (power) "Boost converter output", 3 FB (in) "Voltage feedback of adjustable versions", 4 LBO (hiz) "Low battery comparator output (open drain)", 5 GND (power) "Control / logic ground", 6 VBAT (power) "Supply voltage", 7 LBI (in) "Low battery comparator input (comparator enabled with EN), may not be left floating, should be connected to GND or VBAT if comparator is not used", 8 PS (in) "Enable/disable power save mode (1/VBAT disabled, 0/GND enabled)", 9 SW (power) "Boost and rectifying switch input", 10 PGND (power) "Power ground", 11 PP (power) "Must be soldered to achieve appropriate power dissipation. Should be connected to PGND."

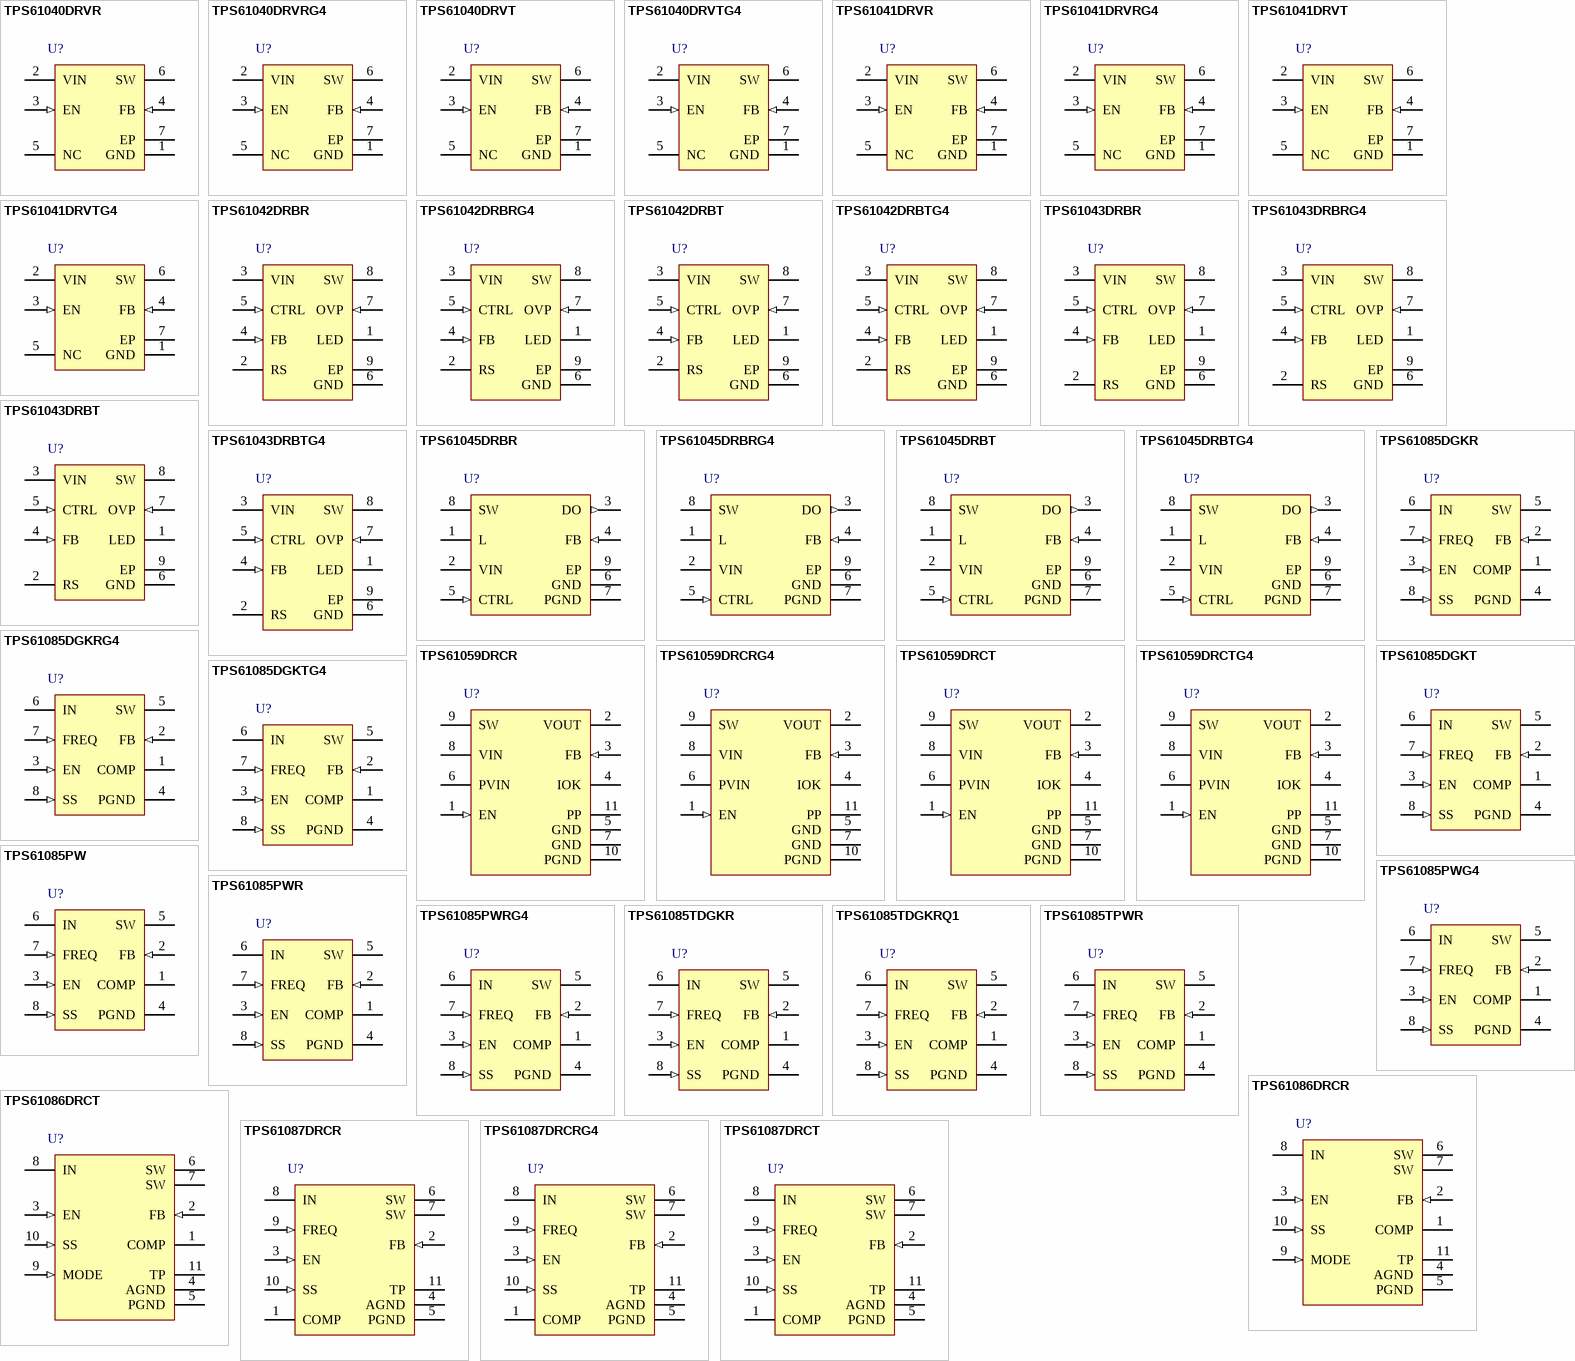
[diagram p2: symbols TPS61040DRVR to TPS61087DRCT]

## TPS61040DRVR
designator U?
Boost Voltage Converter with 1.8 to 6 V Input and 1.8 to 28 V Output, -40 to 85 degC, 6-Pin SON (DRV), Green (RoHS & no Sb/Br); Manufacturer: Texas Instruments; PartNumber: TPS61040DRVR; Regulated Outputs(#): 1; SubFamily: Step-Up Regulator; Switching Frequency(Max)(kHz): 1000; Vin(Max)(V): 6; Vin(Min)(V): 1.8; Vout(Max)(V): 28; DatasheetVersion: SLVS413F; PackageVersion: revE, Oct-2010; PackageReference: DRV6-1600X1000TP; PackageDescription: 6-Pin Plastic Small Outline No-Lead, 2 x 2 x 0.8 mm Body, 0.65 mm Pitch, Exposed Pad; Supplier 1: Digi-Key; Supplier Part Number 1: 296-22980-2-ND; Supplier 2: Digi-Key; Supplier Part Number 2: 296-22980-1-ND; Supplier 3: Digi-Key; Supplier Part Number 3: 296-22980-6-ND; Supplier 4: Newark; Supplier Part Number 4: 72M4767; Supplier 5: Mouser; Supplier Part Number 5: 595-TPS61040DRVR; Eco-Plan: Green (RoHS & no Sb/Br); Topology: Boost; Vout(Min)(V): 1.8; Mounting Technology: Surface Mount; ComponentLink1Description: Datasheet; ComponentLink1URL: http://www.ti.com/general/docs/lit/getliterature.tsp?genericPartNumber=TPS61040&fileType=pdf; ComponentLink2Description: Package Specification; ComponentLink2URL: http://www.ti.com/litv/pdf/mpds216d
footprint DRV6-1600X1000TP (SON, 6-Leads, Body 2x2mm, Pitch 0.65mm, Thermal Pad 1.6x1mm, TI Recommended)
pins: 1 GND (power) "Ground", 2 VIN (power) "Supply voltage pin", 3 EN (in) "This is the enable pin of the device. Pulling this pin to ground forces the device into shutdown mode reducing the supply current to less than 1 uA. This pin should not be left floating and needs to be terminated.", 4 FB (in) "This is the feedback pin of the device. Connect this pin to the external voltage divider to program the desired output voltage.", 5 NC "No connection", 6 SW (power) "Connect the inductor and the Schottky diode to this pin. This is the switch pin and is connected to the drain of the internal power MOSFET.", 7 EP "Exposed Thermal Pad."

## TPS61040DRVRG4
designator U?
Boost Voltage Converter with 1.8 to 6 V Input and 1.8 to 28 V Output, -40 to 85 degC, 6-Pin SON (DRV), Green (RoHS & no Sb/Br); Manufacturer: Texas Instruments; PartNumber: TPS61040DRVRG4; Regulated Outputs(#): 1; SubFamily: Step-Up Regulator; Switching Frequency(Max)(kHz): 1000; Vin(Max)(V): 6; Vin(Min)(V): 1.8; Vout(Max)(V): 28; DatasheetVersion: SLVS413F; PackageVersion: revE, Oct-2010; PackageReference: DRV6-1600X1000TP; PackageDescription: 6-Pin Plastic Small Outline No-Lead, 2 x 2 x 0.8 mm Body, 0.65 mm Pitch, Exposed Pad; Supplier 1: Digi-Key; Supplier Part Number 1: TPS61040DRVRG4-ND; Supplier 2: Mouser; Supplier Part Number 2: 595-TPS61040DRVRG4; Eco-Plan: Green (RoHS & no Sb/Br); Topology: Boost; Vout(Min)(V): 1.8; Mounting Technology: Surface Mount; ComponentLink1Description: Datasheet; ComponentLink1URL: http://www.ti.com/general/docs/lit/getliterature.tsp?genericPartNumber=TPS61040&fileType=pdf; ComponentLink2Description: Package Specification; ComponentLink2URL: http://www.ti.com/litv/pdf/mpds216d
footprint DRV6-1600X1000TP (SON, 6-Leads, Body 2x2mm, Pitch 0.65mm, Thermal Pad 1.6x1mm, TI Recommended)
pins: 1 GND (power) "Ground", 2 VIN (power) "Supply voltage pin", 3 EN (in) "This is the enable pin of the device. Pulling this pin to ground forces the device into shutdown mode reducing the supply current to less than 1 uA. This pin should not be left floating and needs to be terminated.", 4 FB (in) "This is the feedback pin of the device. Connect this pin to the external voltage divider to program the desired output voltage.", 5 NC "No connection", 6 SW (power) "Connect the inductor and the Schottky diode to this pin. This is the switch pin and is connected to the drain of the internal power MOSFET.", 7 EP "Exposed Thermal Pad."

## TPS61040DRVT
designator U?
Boost Voltage Converter with 1.8 to 6 V Input and 1.8 to 28 V Output, -40 to 85 degC, 6-Pin SON (DRV), Green (RoHS & no Sb/Br); Manufacturer: Texas Instruments; PartNumber: TPS61040DRVT; Regulated Outputs(#): 1; SubFamily: Step-Up Regulator; Switching Frequency(Max)(kHz): 1000; Vin(Max)(V): 6; Vin(Min)(V): 1.8; Vout(Max)(V): 28; DatasheetVersion: SLVS413F; PackageVersion: revE, Oct-2010; PackageReference: DRV6-1600X1000TP; PackageDescription: 6-Pin Plastic Small Outline No-Lead, 2 x 2 x 0.8 mm Body, 0.65 mm Pitch, Exposed Pad; Supplier 1: Digi-Key; Supplier Part Number 1: TPS61040DRVT-ND; Supplier 2: Newark; Supplier Part Number 2: 72M4768; Supplier 3: Mouser; Supplier Part Number 3: 595-TPS61040DRVT; Eco-Plan: Green (RoHS & no Sb/Br); Topology: Boost; Vout(Min)(V): 1.8; Mounting Technology: Surface Mount; ComponentLink1Description: Datasheet; ComponentLink1URL: http://www.ti.com/general/docs/lit/getliterature.tsp?genericPartNumber=TPS61040&fileType=pdf; ComponentLink2Description: Package Specification; ComponentLink2URL: http://www.ti.com/litv/pdf/mpds216d
footprint DRV6-1600X1000TP (SON, 6-Leads, Body 2x2mm, Pitch 0.65mm, Thermal Pad 1.6x1mm, TI Recommended)
pins: 1 GND (power) "Ground", 2 VIN (power) "Supply voltage pin", 3 EN (in) "This is the enable pin of the device. Pulling this pin to ground forces the device into shutdown mode reducing the supply current to less than 1 uA. This pin should not be left floating and needs to be terminated.", 4 FB (in) "This is the feedback pin of the device. Connect this pin to the external voltage divider to program the desired output voltage.", 5 NC "No connection", 6 SW (power) "Connect the inductor and the Schottky diode to this pin. This is the switch pin and is connected to the drain of the internal power MOSFET.", 7 EP "Exposed Thermal Pad."

## TPS61040DRVTG4
designator U?
Boost Voltage Converter with 1.8 to 6 V Input and 1.8 to 28 V Output, -40 to 85 degC, 6-Pin SON (DRV), Green (RoHS & no Sb/Br); Manufacturer: Texas Instruments; PartNumber: TPS61040DRVTG4; Regulated Outputs(#): 1; SubFamily: Step-Up Regulator; Switching Frequency(Max)(kHz): 1000; Vin(Max)(V): 6; Vin(Min)(V): 1.8; Vout(Max)(V): 28; DatasheetVersion: SLVS413F; PackageVersion: revE, Oct-2010; PackageReference: DRV6-1600X1000TP; PackageDescription: 6-Pin Plastic Small Outline No-Lead, 2 x 2 x 0.8 mm Body, 0.65 mm Pitch, Exposed Pad; Supplier 1: Digi-Key; Supplier Part Number 1: TPS61040DRVTG4-ND; Supplier 2: Mouser; Supplier Part Number 2: 595-TPS61040DRVTG4; Eco-Plan: Green (RoHS & no Sb/Br); Topology: Boost; Vout(Min)(V): 1.8; Mounting Technology: Surface Mount; ComponentLink1Description: Datasheet; ComponentLink1URL: http://www.ti.com/general/docs/lit/getliterature.tsp?genericPartNumber=TPS61040&fileType=pdf; ComponentLink2Description: Package Specification; ComponentLink2URL: http://www.ti.com/litv/pdf/mpds216d
footprint DRV6-1600X1000TP (SON, 6-Leads, Body 2x2mm, Pitch 0.65mm, Thermal Pad 1.6x1mm, TI Recommended)
pins: 1 GND (power) "Ground", 2 VIN (power) "Supply voltage pin", 3 EN (in) "This is the enable pin of the device. Pulling this pin to ground forces the device into shutdown mode reducing the supply current to less than 1 uA. This pin should not be left floating and needs to be terminated.", 4 FB (in) "This is the feedback pin of the device. Connect this pin to the external voltage divider to program the desired output voltage.", 5 NC "No connection", 6 SW (power) "Connect the inductor and the Schottky diode to this pin. This is the switch pin and is connected to the drain of the internal power MOSFET.", 7 EP "Exposed Thermal Pad."

## TPS61041DRVR
designator U?
Boost Voltage Converter with 1.8 to 6 V Input and 1.8 to 28 V Output, -40 to 85 degC, 6-Pin SON (DRV), Green (RoHS & no Sb/Br); Manufacturer: Texas Instruments; PartNumber: TPS61041DRVR; Regulated Outputs(#): 1; SubFamily: Step-Up Regulator; Switching Frequency(Max)(kHz): 1000; Vin(Max)(V): 6; Vin(Min)(V): 1.8; Vout(Max)(V): 28; DatasheetVersion: SLVS413F; PackageVersion: revE, Oct-2010; PackageReference: DRV6-1600X1000TP; PackageDescription: 6-Pin Plastic Small Outline No-Lead, 2 x 2 x 0.8 mm Body, 0.65 mm Pitch, Exposed Pad; Supplier 1: Digi-Key; Supplier Part Number 1: 296-22981-2-ND; Supplier 2: Digi-Key; Supplier Part Number 2: 296-22981-1-ND; Supplier 3: Digi-Key; Supplier Part Number 3: 296-22981-6-ND; Supplier 4: Newark; Supplier Part Number 4: 72M4769; Supplier 5: Mouser; Supplier Part Number 5: 595-TPS61041DRVR; Eco-Plan: Green (RoHS & no Sb/Br); Topology: Boost; Vout(Min)(V): 1.8; Mounting Technology: Surface Mount; ComponentLink1Description: Datasheet; ComponentLink1URL: http://www.ti.com/general/docs/lit/getliterature.tsp?genericPartNumber=TPS61041&fileType=pdf; ComponentLink2Description: Package Specification; ComponentLink2URL: http://www.ti.com/litv/pdf/mpds216d
footprint DRV6-1600X1000TP (SON, 6-Leads, Body 2x2mm, Pitch 0.65mm, Thermal Pad 1.6x1mm, TI Recommended)
pins: 1 GND (power) "Ground", 2 VIN (power) "Supply voltage pin", 3 EN (in) "This is the enable pin of the device. Pulling this pin to ground forces the device into shutdown mode reducing the supply current to less than 1 uA. This pin should not be left floating and needs to be terminated.", 4 FB (in) "This is the feedback pin of the device. Connect this pin to the external voltage divider to program the desired output voltage.", 5 NC "No connection", 6 SW (power) "Connect the inductor and the Schottky diode to this pin. This is the switch pin and is connected to the drain of the internal power MOSFET.", 7 EP "Exposed Thermal Pad."

## TPS61041DRVRG4
designator U?
Boost Voltage Converter with 1.8 to 6 V Input and 1.8 to 28 V Output, -40 to 85 degC, 6-Pin SON (DRV), Green (RoHS & no Sb/Br); Manufacturer: Texas Instruments; PartNumber: TPS61041DRVRG4; Regulated Outputs(#): 1; SubFamily: Step-Up Regulator; Switching Frequency(Max)(kHz): 1000; Vin(Max)(V): 6; Vin(Min)(V): 1.8; Vout(Max)(V): 28; DatasheetVersion: SLVS413F; PackageVersion: revE, Oct-2010; PackageReference: DRV6-1600X1000TP; PackageDescription: 6-Pin Plastic Small Outline No-Lead, 2 x 2 x 0.8 mm Body, 0.65 mm Pitch, Exposed Pad; Supplier 1: Digi-Key; Supplier Part Number 1: TPS61041DRVRG4-ND; Supplier 2: Mouser; Supplier Part Number 2: 595-TPS61041DRVRG4; Eco-Plan: Green (RoHS & no Sb/Br); Topology: Boost; Vout(Min)(V): 1.8; Mounting Technology: Surface Mount; ComponentLink1Description: Datasheet; ComponentLink1URL: http://www.ti.com/general/docs/lit/getliterature.tsp?genericPartNumber=TPS61041&fileType=pdf; ComponentLink2Description: Package Specification; ComponentLink2URL: http://www.ti.com/litv/pdf/mpds216d
footprint DRV6-1600X1000TP (SON, 6-Leads, Body 2x2mm, Pitch 0.65mm, Thermal Pad 1.6x1mm, TI Recommended)
pins: 1 GND (power) "Ground", 2 VIN (power) "Supply voltage pin", 3 EN (in) "This is the enable pin of the device. Pulling this pin to ground forces the device into shutdown mode reducing the supply current to less than 1 uA. This pin should not be left floating and needs to be terminated.", 4 FB (in) "This is the feedback pin of the device. Connect this pin to the external voltage divider to program the desired output voltage.", 5 NC "No connection", 6 SW (power) "Connect the inductor and the Schottky diode to this pin. This is the switch pin and is connected to the drain of the internal power MOSFET.", 7 EP "Exposed Thermal Pad."

## TPS61041DRVT
designator U?
Boost Voltage Converter with 1.8 to 6 V Input and 1.8 to 28 V Output, -40 to 85 degC, 6-Pin SON (DRV), Green (RoHS & no Sb/Br); Manufacturer: Texas Instruments; PartNumber: TPS61041DRVT; Regulated Outputs(#): 1; SubFamily: Step-Up Regulator; Switching Frequency(Max)(kHz): 1000; Vin(Max)(V): 6; Vin(Min)(V): 1.8; Vout(Max)(V): 28; DatasheetVersion: SLVS413F; PackageVersion: revE, Oct-2010; PackageReference: DRV6-1600X1000TP; PackageDescription: 6-Pin Plastic Small Outline No-Lead, 2 x 2 x 0.8 mm Body, 0.65 mm Pitch, Exposed Pad; Supplier 1: Digi-Key; Supplier Part Number 1: TPS61041DRVT-ND; Supplier 2: Newark; Supplier Part Number 2: 72M4770; Supplier 3: Mouser; Supplier Part Number 3: 595-TPS61041DRVT; Eco-Plan: Green (RoHS & no Sb/Br); Topology: Boost; Vout(Min)(V): 1.8; Mounting Technology: Surface Mount; ComponentLink1Description: Datasheet; ComponentLink1URL: http://www.ti.com/general/docs/lit/getliterature.tsp?genericPartNumber=TPS61041&fileType=pdf; ComponentLink2Description: Package Specification; ComponentLink2URL: http://www.ti.com/litv/pdf/mpds216d
footprint DRV6-1600X1000TP (SON, 6-Leads, Body 2x2mm, Pitch 0.65mm, Thermal Pad 1.6x1mm, TI Recommended)
pins: 1 GND (power) "Ground", 2 VIN (power) "Supply voltage pin", 3 EN (in) "This is the enable pin of the device. Pulling this pin to ground forces the device into shutdown mode reducing the supply current to less than 1 uA. This pin should not be left floating and needs to be terminated.", 4 FB (in) "This is the feedback pin of the device. Connect this pin to the external voltage divider to program the desired output voltage.", 5 NC "No connection", 6 SW (power) "Connect the inductor and the Schottky diode to this pin. This is the switch pin and is connected to the drain of the internal power MOSFET.", 7 EP "Exposed Thermal Pad."

## TPS61041DRVTG4
designator U?
Boost Voltage Converter with 1.8 to 6 V Input and 1.8 to 28 V Output, -40 to 85 degC, 6-Pin SON (DRV), Green (RoHS & no Sb/Br); Manufacturer: Texas Instruments; PartNumber: TPS61041DRVTG4; Regulated Outputs(#): 1; SubFamily: Step-Up Regulator; Switching Frequency(Max)(kHz): 1000; Vin(Max)(V): 6; Vin(Min)(V): 1.8; Vout(Max)(V): 28; DatasheetVersion: SLVS413F; PackageVersion: revE, Oct-2010; PackageReference: DRV6-1600X1000TP; PackageDescription: 6-Pin Plastic Small Outline No-Lead, 2 x 2 x 0.8 mm Body, 0.65 mm Pitch, Exposed Pad; Supplier 1: Digi-Key; Supplier Part Number 1: TPS61041DRVTG4-ND; Supplier 2: Mouser; Supplier Part Number 2: 595-TPS61041DRVTG4; Eco-Plan: Green (RoHS & no Sb/Br); Topology: Boost; Vout(Min)(V): 1.8; Mounting Technology: Surface Mount; ComponentLink1Description: Datasheet; ComponentLink1URL: http://www.ti.com/general/docs/lit/getliterature.tsp?genericPartNumber=TPS61041&fileType=pdf; ComponentLink2Description: Package Specification; ComponentLink2URL: http://www.ti.com/litv/pdf/mpds216d
footprint DRV6-1600X1000TP (SON, 6-Leads, Body 2x2mm, Pitch 0.65mm, Thermal Pad 1.6x1mm, TI Recommended)
pins: 1 GND (power) "Ground", 2 VIN (power) "Supply voltage pin", 3 EN (in) "This is the enable pin of the device. Pulling this pin to ground forces the device into shutdown mode reducing the supply current to less than 1 uA. This pin should not be left floating and needs to be terminated.", 4 FB (in) "This is the feedback pin of the device. Connect this pin to the external voltage divider to program the desired output voltage.", 5 NC "No connection", 6 SW (power) "Connect the inductor and the Schottky diode to this pin. This is the switch pin and is connected to the drain of the internal power MOSFET.", 7 EP "Exposed Thermal Pad."